# Altium footprint library Components - 14.02.24 - 09.48.PcbLib: 1 footprints
Each footprint in its own frame and in the unit in brackets; x right, y up, seen from the top. Pads: shape width x height; smd on the part's side, far side on the other; paste and mask are expansions set on the pad; w line width, h text height; cw(c..) or ccw(c..) is an arc to the next point about the centre after c.
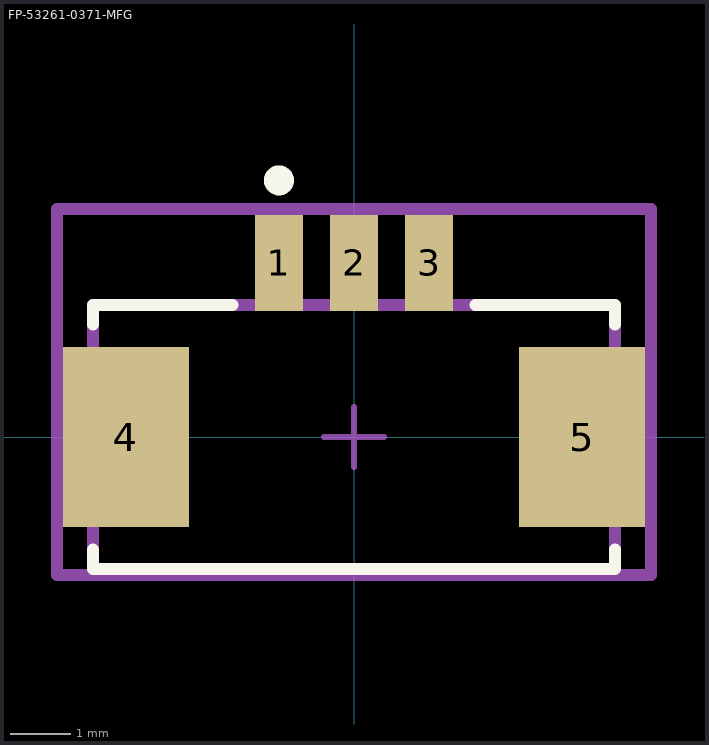
[diagram p0: the footprint, top view; thin cyan lines are the x and y axes]

## FP-53261-0371-MFG [mm]
pads (5):
  rect 0.8x1.6 smd paste+0 mask+0: 1(-1.25,2.9) 2(0,2.9) 3(1.25,2.9)
  rect 2.1x3 smd paste+0 mask+0: 4(-3.8,0) 5(3.8,0)
Top Overlay:
  circle w0.25: c-1.25,4.275 r0.125
  lines w0.2: -4.35,-1.875 -4.35,-2.2 4.35,-2.2 4.35,-1.875 ; -4.35,1.875 -4.35,2.2 -2.025,2.2 ; 2.025,2.2 4.35,2.2 4.35,1.875
Top Assembly:
  lines w0.2: -4.95,-2.3 -4.95,3.8 4.95,3.8 4.95,-2.3 -4.95,-2.3
  text ".Designator" at 0,0.749 h1
Top 3D Body:
  lines w0.2: -4.35,-2.2 -4.35,2.2 4.35,2.2 4.35,-2.2 -4.35,-2.2
Top Courtyard:
  lines w0.2: -4.95,-2.3 -4.95,3.8 4.95,3.8 4.95,-2.3 -4.95,-2.3
Top Component Center:
  lines w0.1: -0.5,0 0.5,0 ; 0,-0.5 0,0.5
3D body "Conn_Molex_53261-0371_eec.STEP": height 0.25, standoff 0, extent -4.95,-2.3 4.95,3.8